# EAGLE library part ATMEGA2564RFR2 (library Pinoccio)
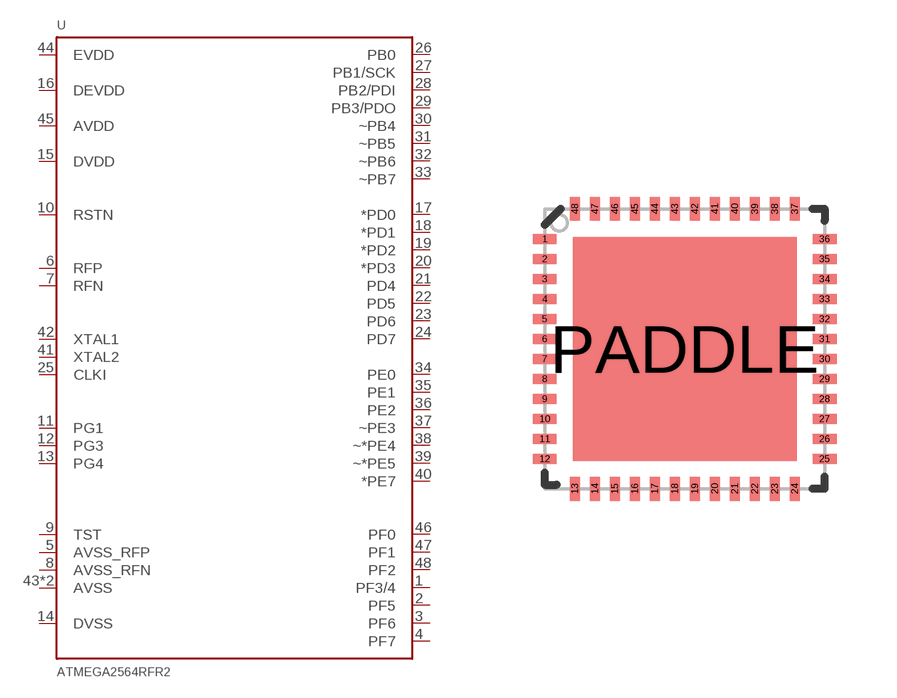
[diagram p42: symbol with the pads of QFN-48; footprint QFN-48]

Designator prefix -

## ATMEGA2564RFR2  [QFN-48]
1  PF3/4
2  PF5
3  PF6
4  PF7
5  AVSS_RFP
6  RFP
7  RFN
8  AVSS_RFN
9  TST
10  RSTN
11  PG1
12  PG3
13  PG4
14  DVSS
15  DVDD
16  DEVDD
17  *PD0
18  *PD1
19  *PD2
20  *PD3
21  PD4
22  PD5
23  PD6
24  PD7
25  CLKI
26  PB0
27  PB1/SCK
28  PB2/PDI
29  PB3/PDO
30  ~PB4
31  ~PB5
32  ~PB6
33  ~PB7
34  PE0
35  PE1
36  PE2
37  ~PE3
38  ~*PE4
39  ~*PE5
40  *PE7
41  XTAL2
42  XTAL1
43  AVSS
44  EVDD
45  AVDD
46  PF0
47  PF1
48  PF2
PADDLE  AVSS

## Footprint QFN-48 (pad centres in mm)
smd 0.6 x 0.25: 1 -3.5,2.75; 2 -3.5,2.25; 3 -3.5,1.75; 4 -3.5,1.25; 5 -3.5,0.75; 6 -3.5,0.25; 7 -3.5,-0.25; 8 -3.5,-0.75; 9 -3.5,-1.25; 10 -3.5,-1.75; 11 -3.5,-2.25; 12 -3.5,-2.75; 25 3.5,-2.75; 26 3.5,-2.25; 27 3.5,-1.75; 28 3.5,-1.25; 29 3.5,-0.75; 30 3.5,-0.25; 31 3.5,0.25; 32 3.5,0.75; 33 3.5,1.25; 34 3.5,1.75; 35 3.5,2.25; 36 3.5,2.75
smd 0.25 x 0.6: 13 -2.75,-3.5; 14 -2.25,-3.5; 15 -1.75,-3.5; 16 -1.25,-3.5; 17 -0.75,-3.5; 18 -0.25,-3.5; 19 0.25,-3.5; 20 0.75,-3.5; 21 1.25,-3.5; 22 1.75,-3.5; 23 2.25,-3.5; 24 2.75,-3.5; 37 2.75,3.5; 38 2.25,3.5; 39 1.75,3.5; 40 1.25,3.5; 41 0.75,3.5; 42 0.25,3.5; 43 -0.25,3.5; 44 -0.75,3.5; 45 -1.25,3.5; 46 -1.75,3.5; 47 -2.25,3.5; 48 -2.75,3.5
smd 5.6 x 5.6: PADDLE 0,0